# Altium footprint library Components - 08.04.22 - 12.49.PcbLib: 1 footprints
Each footprint in its own frame and in the unit in brackets; x right, y up, seen from the top. Pads: shape width x height; smd on the part's side, far side on the other; paste and mask are expansions set on the pad; w line width, h text height; cw(c..) or ccw(c..) is an arc to the next point about the centre after c.
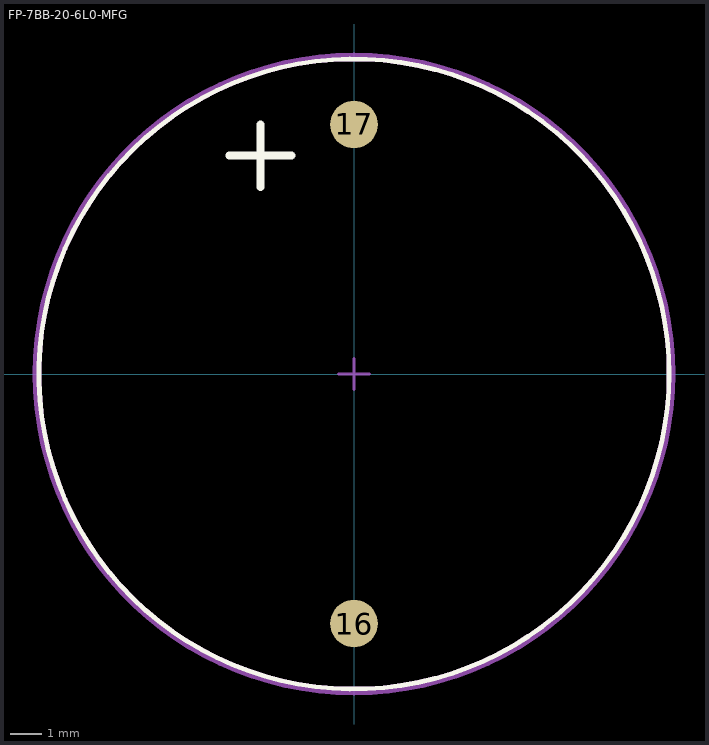
[diagram p0: the footprint, top view; thin cyan lines are the x and y axes]

## FP-7BB-20-6L0-MFG [mil]
pads (2):
  round 60 smd: 16(0,-314.96) 17(0,314.96)
Top Overlay:
  circle w5.91: c0,0 r397.64
  lines w10: -157.48,275.59 -78.74,275.59 -118.11,275.59 ; -118.11,314.96 -118.11,275.59 ; -118.11,275.59 -118.11,236.22 -118.11,275.59
Mechanical 5:
  text ".Designator" at 0,7.39 h39.37
Mechanical 13:
  circle w5.91: c0,0 r397.64
Mechanical 15:
  lines w7.87: -401.57,0 ccw(c0,0) 401.57,0 ccw(c0,0) -401.57,0
Mechanical 16:
  lines w3.94: -19.68,0 19.68,0 ; 0,-19.68 0,19.68
3D body "Speak_Murata_7BB-20-6L0_eec.STEP": height 10, standoff 0, extent -401.57,-401.57 401.57,401.57